# Altium footprint library COOP4403_BerkantAY.PcbLib: 11 footprints
Each footprint in its own frame and in the unit in brackets; x right, y up, seen from the top. Pads: shape width x height; smd on the part's side, far side on the other; paste and mask are expansions set on the pad; w line width, h text height; cw(c..) or ccw(c..) is an arc to the next point about the centre after c.
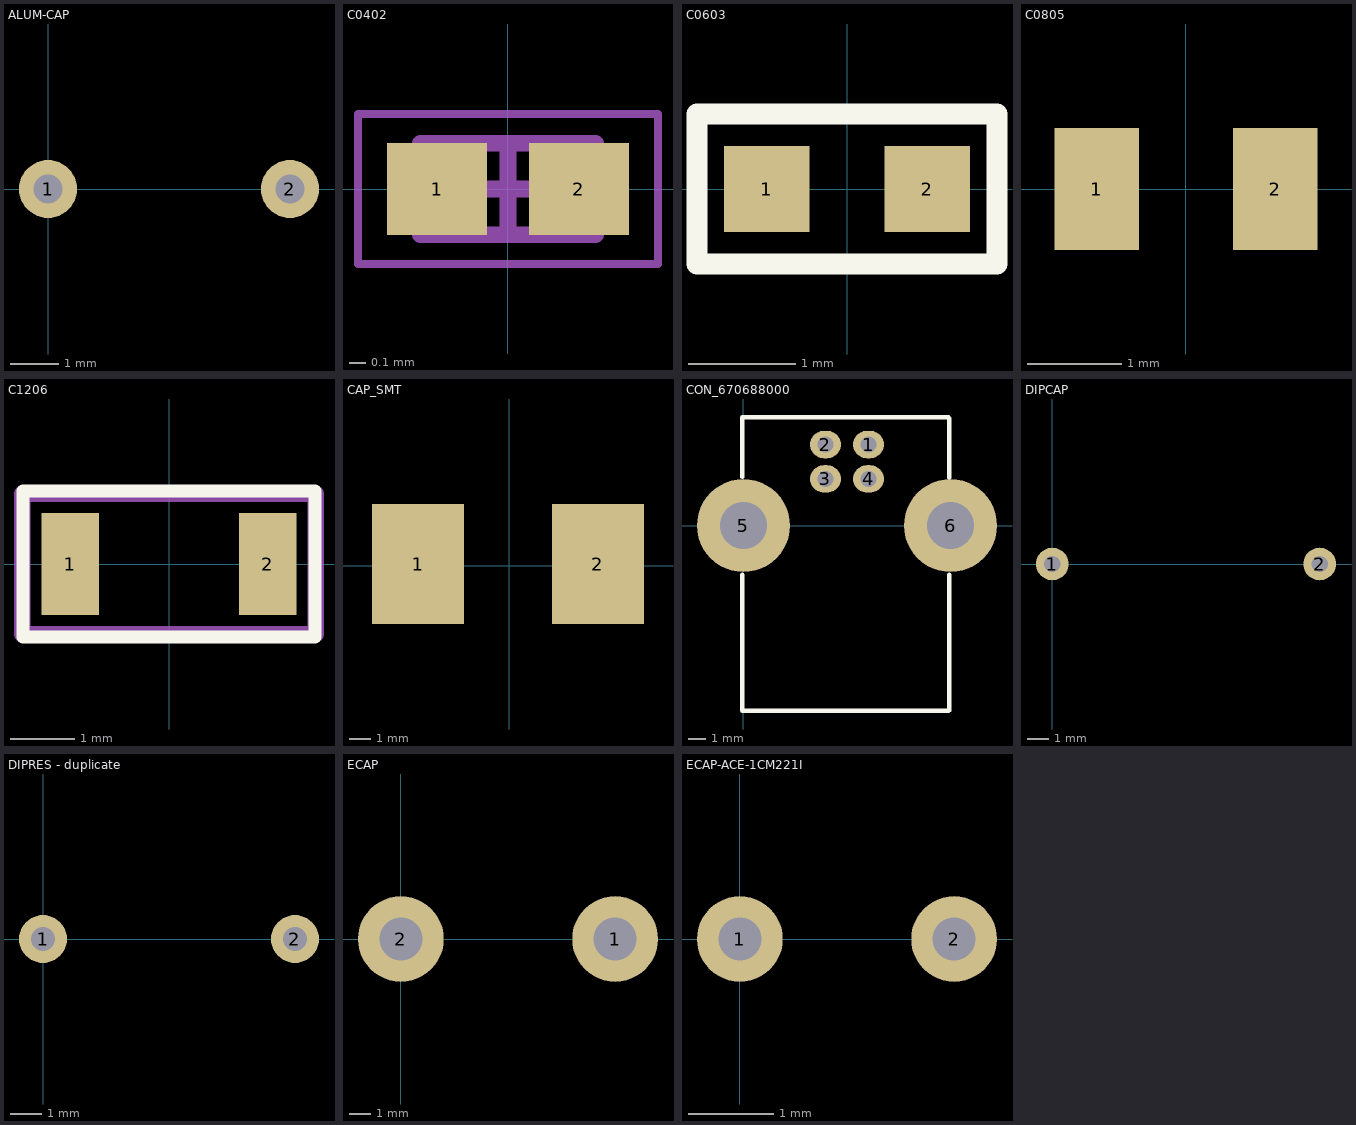
[diagram p0: the footprints below, top view; thin cyan lines are the x and y axes]

## ALUM-CAP [mm] "CAP ALUM 100uF 20% 35 Radial"
pads (2):
  round 1.2 hole 0.6: 1(0,0) 2(5,0)
3D body "SW3dPS-Cap electro 10x12.5x5.0mm.STEP": height 13.03, standoff -3.48, extent -2.561,-5.025 7.489,5.026

## C0402 [mm] "CL05B273K05NNNC 16V X7R"
height 0.65
pads (2):
  rect 0.6x0.55 smd: 1(-0.425,0) 2(0.425,0)
Mechanical 13:
  lines w0.1: -0.525,-0.275 0.525,-0.275 0.525,0.275 -0.525,0.275 -0.525,-0.275
Mechanical 15:
  lines w0.05: -0.9,-0.45 0.9,-0.45 0.9,0.45 -0.9,0.45 -0.9,-0.45
  lines w0.1: -0.275,0 0.275,0 ; 0,-0.275 0,0.275
3D body: height 0.65, standoff 0, extent 0.275,-0.275 0.525,0.275
3D body: height 0.65, standoff 0, extent -0.525,-0.275 -0.275,0.275
3D body: height 0.65, standoff 0, extent -0.275,-0.275 0.275,0.275

## C0603 [mm]
pads (2):
  rect 0.8x0.8 smd: 1(-0.75,0) 2(0.75,0)
Top Overlay:
  lines w0.2: -1.4,-0.7 1.4,-0.7 1.4,0.7 -1.4,0.7 -1.4,-0.7
Mechanical 16:
  lines w0.15: -1.4,-0.7 -1.4,0.7 1.4,0.7 1.4,-0.7 -1.4,-0.7
3D body "C0603.step": height 0.95, standoff 0.15, extent -0.8,-0.425 0.8,0.435
3D body "C0603.step": height 0.79, standoff 0, extent -0.8,-0.425 0.8,0.435

## C0805 [mm]
pads (2):
  rect 0.9x1.3 smd: 1(-0.95,0) 2(0.95,0)
3D body "CAPC2012X95N EIA 0805.step": height 1.5, standoff 0.55, extent -1,-0.6 1,0.6
3D body "CAPC2012X95N EIA 0805.step": height 0.95, standoff 0, extent -1,-0.6 1,0.6

## C1206 [mm]
pads (2):
  rect 0.9x1.6 smd: 1(-1.55,0) 2(1.55,0)
Top Overlay:
  lines w0.2: -2.286,-1.143 -2.286,1.143 2.286,1.143 2.286,-1.143 -2.286,-1.143
Mechanical 16:
  lines w0.254: -2.3,-1.1 2.3,-1.1 2.3,1.1 -2.3,1.1 -2.3,-1.1
3D body "CAPC3216X95N EIA 1206.step": height 0.95, standoff 0, extent -1.6,-0.8 1.6,0.8
3D body "CAPC3216X95N EIA 1206.step": height 1.8, standoff 0.85, extent -1.6,-0.8 1.6,0.8

## CAP_SMT [mm]
pads (2):
  rect 4.3x5.6 smd: 1(-4.242,0.076) 2(4.14,0.076)
3D body "User Library-CL_series_size10x13,5.STEP": height 13.5, standoff 0, extent -5.45,-4.814 5.45,5.486

## CON_670688000 [mm] "CONN USB RT ANG RECPT TYPE B BLK"
pads (6):
  oval 1.8x1.6 hole 0.92: 1(7.27,4.71) 2(4.77,4.71) 3(4.77,2.71) 4(7.27,2.71)
  round 5.4 hole 2.71: 5(0,0) 6(12.04,0)
Top Overlay:
  lines w0.254: -0.076,-2.87 -0.076,-10.77 11.924,-10.77 ; -0.076,2.819 -0.076,6.299 11.924,6.299 ; 11.963,-10.752 11.963,-2.87 ; 11.963,2.769 11.963,6.248
3D body "14389.stp": height 10.7, standoff -3.95, extent -1.524,-10.485 13.376,6.015

## DIPCAP [mil]
pads (2):
  round 60 hole 30: 1(0,0) 2(492.13,0)
3D body: height 203.23, standoff -108.97, extent 0,0 0,0

## DIPRES - duplicate [mil]
pads (2):
  round 60 hole 30: 1(0,0) 2(314.96,0)

## ECAP [mm]
pads (2):
  round 4 hole 2: 1(10,0) 2(0,0)

## ECAP-ACE-1CM221I [mm] "CAP ALUM 220uF %20 16V Radial"
pads (2):
  round 1 hole 0.5: 1(0,0) 2(2.5,0)
3D body "SW3dPS-capacitor-3.STEP": height 11, standoff -11, extent -3.388,-4.531 5.522,4.379